# Altium footprint library Inductor.PcbLib: 1 footprints
Each footprint in its own frame and in the unit in brackets; x right, y up, seen from the top. Pads: shape width x height; smd on the part's side, far side on the other; paste and mask are expansions set on the pad; w line width, h text height; cw(c..) or ccw(c..) is an arc to the next point about the centre after c.
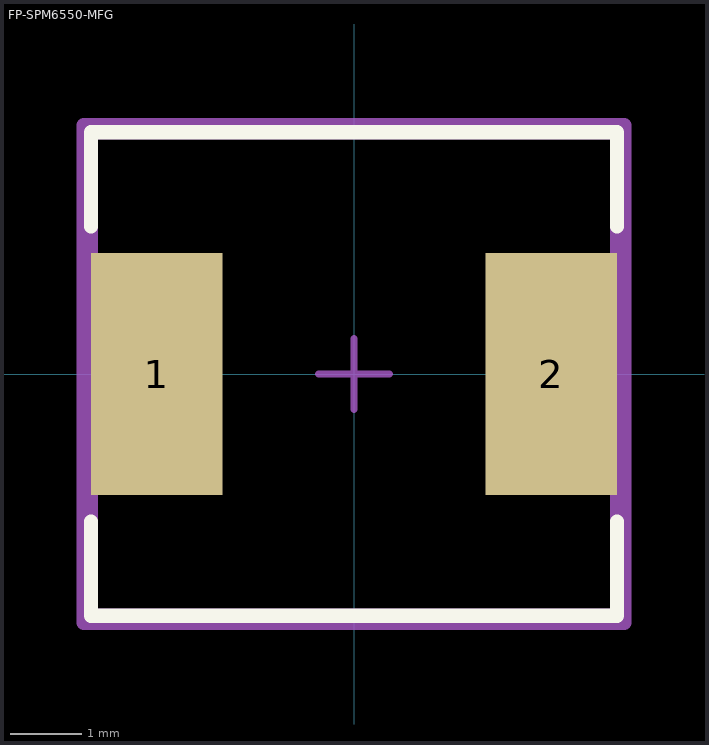
[diagram p0: the footprint, top view; thin cyan lines are the x and y axes]

## FP-SPM6550-MFG [mm]
pads (2):
  rect 1.85x3.4 smd paste+0 mask+0: 1(-2.775,0) 2(2.775,0)
Top Overlay:
  lines w0.2: -3.7,-2.075 -3.7,-3.4 3.7,-3.4 3.7,-2.075 ; -3.7,2.075 -3.7,3.4 3.7,3.4 3.7,2.075
Mechanical 5:
  lines w0.2: -3.8,-3.5 3.8,-3.5 3.8,3.5 -3.8,3.5 -3.8,-3.5
  text ".Designator" at 0,0.188 h1
Mechanical 13:
  lines w0.2: -3.7,-3.4 3.7,-3.4 3.7,3.4 -3.7,3.4 -3.7,-3.4
Mechanical 15:
  lines w0.2: -3.8,-3.5 3.8,-3.5 3.8,3.5 -3.8,3.5 -3.8,-3.5
Mechanical 16:
  lines w0.1: -0.5,0 0.5,0 ; 0,-0.5 0,0.5
3D body "Ind_TDK_SPM6550T-R47M-HZ_eec.STEP": height 0.25, standoff 0, extent -3.8,-3.5 3.8,3.5